# Altium integrated library ON Semi Signal Management CMOS Image Sensors.IntLib: 21 symbols (part 3 of 3)
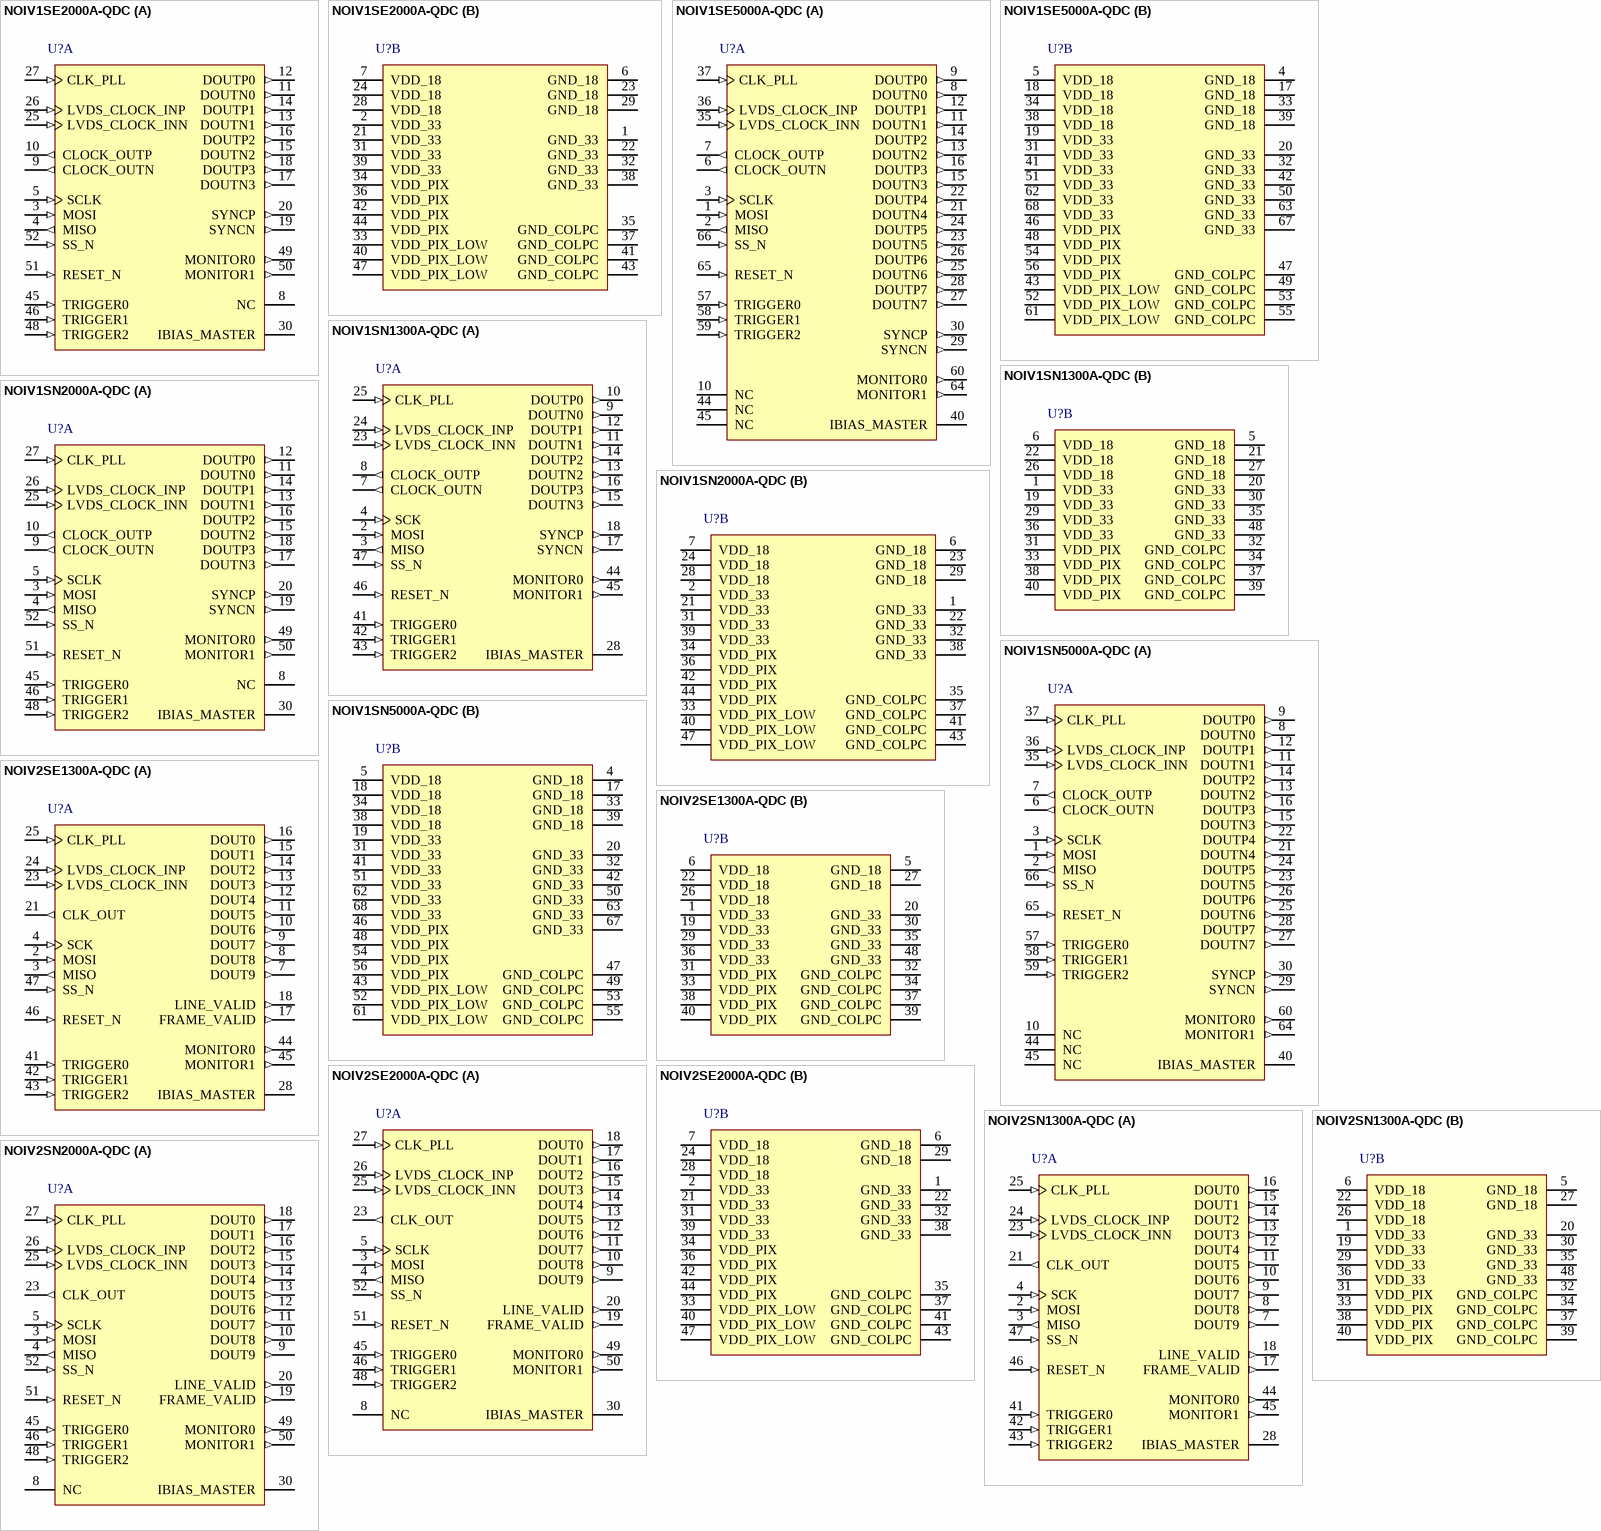
[diagram p5: symbols NOIV1SE2000A-QDC to NOIV2SN2000A-QDC]

## NOIV1SN2000A-QDC
designator U?
2.3 Megapixel 92 FPS Global Shutter CMOS Image Sensor, 0 to 70 degC, 52-Pin LCC, Pb-Free, Tray; Manufacturer: On Semiconductor; PartNumber: NOIV1SN2000A-QDC; Frame Rate (fps): 92; Megapixels: 2; Optical Format: 2/3 inch; Shutter Type: Pipelined and Triggered Global Shutter, Rolling Shutter; DatasheetVersion: Rev. 5; PackageVersion: Rev. O, 06/2011; PackageReference: LCC-52-115AP-01; PackageDescription: 52-Pin Leadless Chip Carrier, Body 19.115 x 19.115 mm, Pitch 1.27 mm; Supplier 1: Digi-Key; Supplier Part Number 1: NOIV1SN2000A-QDC-ND; Supplier 2: Newark; Supplier Part Number 2: 65T1494; Supplier 3: Mouser; Supplier Part Number 3: 863-NOIV1SN2000A-QDC; Packing: Tray; RoHS: TRUE; Mounting Technology: Surface Mount; ComponentLink1Description: Manufacturer URL; ComponentLink1URL: http://www.onsemi.com/; ComponentLink2Description: Datasheet; ComponentLink2URL: http://www.onsemi.com/pub_link/Collateral/NOIV1SN2000A-D.PDF; ComponentLink3Description: Package Specification; ComponentLink3URL: http://www.onsemi.com/pub_link/Collateral/115AP.PDF
footprint ONSC-LCC-52-115AP-01_V (LCC, 52-Leads, Body 19.115x19.115mm, Pitch 1.27mm)
part A pins: 3 MOSI (in) "SPI master out - slave in", 4 MISO (out) "SPI master in - slave out", 5 SCLK (in) "SPI clock", 8 NC "Not connected", 9 CLOCK_OUTN (out) "LVDS clock output (Negative)", 10 CLOCK_OUTP (out) "LVDS clock output (Positive)", 11 DOUTN0 (out) "LVDS data output channel #0 (Negative)", 12 DOUTP0 (out) "LVDS data output channel #0(Positive)", 13 DOUTN1 (out) "LVDS data output channel #1 (Negative)", 14 DOUTP1 (out) "LVDS data output channel #1(Positive)", 15 DOUTN2 (out) "LVDS data output channel #2 (Negative)", 16 DOUTP2 (out) "LVDS data output channel #2 (Positive)", 17 DOUTN3 (out) "LVDS data output channel #3 (Negative)", 18 DOUTP3 (out) "LVDS data output channel #3 (Positive)", 19 SYNCN (out) "LVDS sync channel output (Negative)", 20 SYNCP (out) "LVDS sync channel output (Positive)", 25 LVDS_CLOCK_INN (in) "LVDS clock input (Negative)", 26 LVDS_CLOCK_INP (in) "LVDS clock input (Positive)", 27 CLK_PLL (in) "Reference clock input for PLL", 30 IBIAS_MASTER "Master bias reference. Connect 47 k to gnd_33", 45 TRIGGER0 (in) "Trigger input #0", 46 TRIGGER1 (in) "Trigger input #1", 48 TRIGGER2 (in) "Trigger input #2", 49 MONITOR0 (out) "Monitor output #0", 50 MONITOR1 (out) "Monitor output #1", 51 RESET_N (in) "Sensor reset (active low)", 52 SS_N (in) "SPI slave select (active low)"
part B pins: 1 GND_33 (power) "3.3 V ground", 2 VDD_33 (power) "3.3 V Supply", 6 GND_18 (power) "1.8 V ground", 7 VDD_18 (power) "1.8 V supply", 21 VDD_33 (power) "3.3 V supply", 22 GND_33 (power) "3.3 V ground", 23 GND_18 (power) "1.8 V ground", 24 VDD_18 (power) "1.8 V supply", 28 VDD_18 (power) "1.8 V supply", 29 GND_18 (power) "1.8 V ground", 31 VDD_33 (power) "3.3 V supply", 32 GND_33 (power) "3.3 V ground", 33 VDD_PIX_LOW (power) "1.8 V supply", 34 VDD_PIX (power) "Pixel array supply (3.3 V)", 35 GND_COLPC (power) "Pixel array ground (0 V)", 36 VDD_PIX (power) "Pixel array supply (3.3 V)", 37 GND_COLPC (power) "Pixel array ground (0 V)", 38 GND_33 (power) "3.3 V ground", 39 VDD_33 (power) "3.3 V supply", 40 VDD_PIX_LOW (power) "1.8 V supply", 41 GND_COLPC (power) "Pixel array ground (0 V)", 42 VDD_PIX (power) "Pixel array supply (3.3 V)", 43 GND_COLPC (power) "Pixel array ground (0 V)", 44 VDD_PIX (power) "Pixel array supply (3.3 V)", 47 VDD_PIX_LOW (power) "1.8 V supply"

## NOIV1SN5000A-QDC
designator U?
5.3 Megapixel 75 FPS Global Shutter CMOS Image Sensor, 0 to 70 degC, 68-Pin LCC, Pb-Free, Tray; Manufacturer: On Semiconductor; PartNumber: NOIV1SN5000A-QDC; Frame Rate (fps): 75; Megapixels: 5; Optical Format: 1 inch; Shutter Type: Pipelined and Triggered Global Shutter, Rolling Shutter; DatasheetVersion: Rev. 6; PackageVersion: Rev. O, 06/2011; PackageReference: LCC-68-115AR-01; PackageDescription: 68-Pin Leadless Chip Carrier, Body 24.195 x 24.195 mm, Pitch 1.27 mm; Supplier 1: Digi-Key; Supplier Part Number 1: NOIV1SN5000A-QDC-ND; Supplier 2: Newark; Supplier Part Number 2: 65T1495; Supplier 3: Mouser; Supplier Part Number 3: 863-NOIV1SN5000A-QDC; Packing: Tray; RoHS: TRUE; Mounting Technology: Surface Mount; ComponentLink1Description: Manufacturer URL; ComponentLink1URL: http://www.onsemi.com/; ComponentLink2Description: Datasheet; ComponentLink2URL: http://www.onsemi.com/pub_link/Collateral/NOIV1SN5000A-D.PDF; ComponentLink3Description: Package Specification; ComponentLink3URL: http://www.onsemi.com/pub_link/Collateral/115AR.PDF
footprint ONSC-LCC-68-115AR-01_V (LCC, 68-Leads, Body 24.2x24.2mm, Pitch 1.27mm)
part A pins: 1 MOSI (in) "SPI Master Out Slave In", 2 MISO (out) "SPI Master In Slave Out", 3 SCLK (in) "SPI Input Clock", 6 CLOCK_OUTN (out) "LVDS Clock Output (Negative)", 7 CLOCK_OUTP (out) "LVDS Clock Output (Positive)", 8 DOUTN0 (out) "LVDS Data Output Channel #0 (Negative)", 9 DOUTP0 (out) "LVDS Data Output Channel #1 (Positive)", 10 NC "Not Connected", 11 DOUTN1 (out) "LVDS Data Output Channel #1 (Negative)", 12 DOUTP1 (out) "LVDS Data Output Channel #1 (Positive)", 13 DOUTN2 (out) "LVDS Data Output Channel #2 (Negative)", 14 DOUTP2 (out) "LVDS Data Output Channel #2 (Positive)", 15 DOUTN3 (out) "LVDS Data Output Channel #3 (Negative)", 16 DOUTP3 (out) "LVDS Data Output Channel #3 (Positive)", 21 DOUTN4 (out) "LVDS Data Output Channel #4 (Negative)", 22 DOUTP4 (out) "LVDS Data Output Channel #4 (Positive)", 23 DOUTN5 (out) "LVDS Data Output Channel #5 (Negative)", 24 DOUTP5 (out) "LVDS Data Output Channel #5 (Positive)", 25 DOUTN6 (out) "LVDS Data Output Channel #6 (Negative)", 26 DOUTP6 (out) "LVDS Data Output Channel #6 (Positive)", 27 DOUTN7 (out) "LVDS Data Output Channel #7 (Negative)", 28 DOUTP7 (out) "LVDS Data Output Channel #7 (Positive)", 29 SYNCN (out) "LVDS Sync Channel Output (Negative)", 30 SYNCP (out) "LVDS Sync Channel Output (Positive)", 35 LVDS_CLOCK_INN (in) "LVDS Clock Input (Positive)", 36 LVDS_CLOCK_INP (in) "LVDS Clock Input (Positive)", 37 CLK_PLL (in) "Reference Clock Input for PLL", 40 IBIAS_MASTER "Master Bias Reference", 44 NC "Not Connected", 45 NC "Not Connected", 57 TRIGGER0 (in) "Trigger Input #0", 58 TRIGGER1 (in) "Trigger Input #1", 59 TRIGGER2 (in) "Trigger Input #0", 60 MONITOR0 (out) "Monitor Output #0", 64 MONITOR1 (out) "Monitor Output #1", 65 RESET_N (in) "Sensor Reset (Active Low)", 66 SS_N (in) "SPI Slave Select."
part B pins: 4 GND_18 (power) "1.8 V Ground", 5 VDD_18 (power) "1.8 V Supply", 17 GND_18 (power) "1.8 V Ground", 18 VDD_18 (power) "1.8 V Supply", 19 VDD_33 (power) "3.3 V Supply", 20 GND_33 (power) "3.3 V Ground", 31 VDD_33 (power) "3.3 V Supply", 32 GND_33 (power) "3.3 V Ground", 33 GND_18 (power) "1.8 V Ground", 34 VDD_18 (power) "1.8 V Supply", 38 VDD_18 (power) "1.8 V Supply", 39 GND_18 (power) "1.8 V Ground", 41 VDD_33 (power) "3.3 V Supply", 42 GND_33 (power) "3.3 V Ground", 43 VDD_PIX_LOW (power) "Additional optional supply. If not used, tie this node to vdd_pix or ground.", 46 VDD_PIX (power) "Pixel Array Supply (3.3 V)", 47 GND_COLPC (power) "Pixel Array Ground (0 V)", 48 VDD_PIX (power) "Pixel Array Supply (3.3 V)", 49 GND_COLPC (power) "Pixel Array Ground (0 V)", 50 GND_33 (power) "3.3 V Ground", 51 VDD_33 (power) "3.3 V Supply", 52 VDD_PIX_LOW (power) "Additional optional supply. If not used, tie this node to vdd_pix or ground.", 53 GND_COLPC (power) "Pixel Array Ground (0 V)", 54 VDD_PIX (power) "Pixel Array Supply (3.3 V)", 55 GND_COLPC (power) "Pixel Array Ground (0 V)", 56 VDD_PIX (power) "Pixel Array Supply (3.3 V)", 61 VDD_PIX_LOW (power) "Additional optional supply. If not used, tie this node to vdd_pix or ground.", 62 VDD_33 (power) "3.3 V supply", 63 GND_33 (power) "3.3 V Ground", 67 GND_33 (power) "3.3 V Ground", 68 VDD_33 (power) "3.3 V supply"

## NOIV2SE1300A-QDC
designator U?
1.3 Megapixel 150 FPS Global Shutter CMOS Image Sensor, -40 to 85 degC, 48-Pin LCC, Pb-Free, Tray; Manufacturer: On Semiconductor; PartNumber: NOIV2SE1300A-QDC; Frame Rate (fps): 37; Megapixels: 1.3; Optical Format: 1/2 inch; Shutter Type: Pipelined and Triggered Global Shutter, Rolling Shutter; DatasheetVersion: Rev. 9; PackageReference: LCC-48-NOI; PackageDescription: 48-Pin Leadless Chip Carrier, Body 14.305 x 14.305 mm, Pitch 1.016 mm; Supplier 1: Digi-Key; Supplier Part Number 1: NOIV2SE1300A-QDC-ND; Supplier 2: Newark; Supplier Part Number 2: 65T1496; Supplier 3: Mouser; Supplier Part Number 3: 863-NOIV2SE1300A-QDC; Packing: Tray; RoHS: TRUE; Mounting Technology: Surface Mount; ComponentLink1Description: Manufacturer URL; ComponentLink1URL: http://www.onsemi.com/; ComponentLink2Description: Datasheet; ComponentLink2URL: http://www.onsemi.com/pub_link/Collateral/NOIV1SN1300A-D.PDF; ComponentLink3Description: Package Specification; ComponentLink3URL: http://www.onsemi.com/pub_link/Collateral/NOIV1SN1300A-D.PDF
footprint ONSC-LCC-48-NOI_N (LCC, 48-Leads, Body 14.31x14.31mm, Pitch 1.016mm, IPC Medium Density)
footprint ONSC-LCC-48-NOI_L (LCC, 48-Leads, Body 14.31x14.31mm, Pitch 1.016mm, IPC High Density)
footprint ONSC-LCC-48-NOI_M (LCC, 48-Leads, Body 14.31x14.31mm, Pitch 1.016mm, IPC Low Density)
part A pins: 2 MOSI (in) "SPI Master Out - Slave In", 3 MISO (out) "SPI Master In - Slave Out", 4 SCK (in) "SPI Clock", 7 DOUT9 (out) "Data Output Bit #9", 8 DOUT8 (out) "Data Output Bit #8", 9 DOUT7 (out) "Data Output Bit #7", 10 DOUT6 (out) "Data Output Bit #6", 11 DOUT5 (out) "Data Output Bit #5", 12 DOUT4 (out) "Data Output Bit #4", 13 DOUT3 (out) "Data Output Bit #3", 14 DOUT2 (out) "Data Output Bit #2", 15 DOUT1 (out) "Data Output Bit #1", 16 DOUT0 (out) "Data Output Bit #0", 17 FRAME_VALID (out) "Frame Valid Output", 18 LINE_VALID (out) "Line Valid Output", 21 CLK_OUT (out) "Clock output", 23 LVDS_CLOCK_INN (in) "LVDS Clock Input (Negative)", 24 LVDS_CLOCK_INP (in) "LVDS Clock Input (Positive)", 25 CLK_PLL (in) "CMOS Clock Input", 28 IBIAS_MASTER "Master Bias Reference. Connect with 47k to gnd_33.", 41 TRIGGER0 (in) "Trigger Input #0", 42 TRIGGER1 (in) "Trigger Input #1", 43 TRIGGER2 (in) "Trigger Input #2", 44 MONITOR0 (out) "Monitor Output #0", 45 MONITOR1 (out) "Monitor Output #1", 46 RESET_N (in) "Sensor Reset (Active Low)", 47 SS_N (in) "SPI Slave Select (Active Low)"
part B pins: 1 VDD_33 (power) "3.3 V Supply", 5 GND_18 (power) "1.8 V Ground", 6 VDD_18 (power) "1.8 V Supply", 19 VDD_33 (power) "3.3 V Supply", 20 GND_33 (power) "3.3 V Ground", 22 VDD_18 (power) "1.8 V Supply", 26 VDD_18 (power) "1.8 V Supply", 27 GND_18 (power) "1.8 V Ground", 29 VDD_33 (power) "3.3 V Supply", 30 GND_33 (power) "3.3 V Ground", 31 VDD_PIX (power) "Pixel Array Supply", 32 GND_COLPC (power) "Pixel Array Ground", 33 VDD_PIX (power) "Pixel Array Supply", 34 GND_COLPC (power) "Pixel Array Ground", 35 GND_33 (power) "3.3 V Ground", 36 VDD_33 (power) "3.3 V Supply", 37 GND_COLPC (power) "Pixel Array Ground", 38 VDD_PIX (power) "Pixel Array Supply", 39 GND_COLPC (power) "Pixel Array Ground", 40 VDD_PIX (power) "Pixel Array Supply", 48 GND_33 (power) "3.3 V Ground"

## NOIV2SE2000A-QDC
designator U?
2.3 Megapixel 92 FPS Global Shutter CMOS Image Sensor, 0 to 70 degC, 52-Pin LCC, Pb-Free, Tray; Manufacturer: On Semiconductor; PartNumber: NOIV2SE2000A-QDC; Frame Rate (fps): 23; Megapixels: 2; Optical Format: 2/3 inch; Shutter Type: Pipelined and Triggered Global Shutter, Rolling Shutter; DatasheetVersion: Rev. 5; PackageVersion: Rev. O, 06/2011; PackageReference: LCC-52-115AP-01; PackageDescription: 52-Pin Leadless Chip Carrier, Body 19.115 x 19.115 mm, Pitch 1.27 mm; Supplier 1: Digi-Key; Supplier Part Number 1: NOIV2SE2000A-QDC-ND; Supplier 2: Newark; Supplier Part Number 2: 65T1497; Supplier 3: Mouser; Supplier Part Number 3: 863-NOIV2SE2000A-QDC; Packing: Tray; RoHS: TRUE; Mounting Technology: Surface Mount; ComponentLink1Description: Manufacturer URL; ComponentLink1URL: http://www.onsemi.com/; ComponentLink2Description: Datasheet; ComponentLink2URL: http://www.onsemi.com/pub_link/Collateral/NOIV1SN2000A-D.PDF; ComponentLink3Description: Package Specification; ComponentLink3URL: http://www.onsemi.com/pub_link/Collateral/115AP.PDF
footprint ONSC-LCC-52-115AP-01_V (LCC, 52-Leads, Body 19.115x19.115mm, Pitch 1.27mm)
part A pins: 3 MOSI (in) "SPI master out - slave in", 4 MISO (out) "SPI master in - slave out", 5 SCLK (in) "SPI clock", 8 NC "Not connected", 9 DOUT9 (out) "Data output bit #9", 10 DOUT8 (out) "Data output bit #8", 11 DOUT7 (out) "Data output bit #7", 12 DOUT6 (out) "Data output bit #6", 13 DOUT5 (out) "Data output bit #5", 14 DOUT4 (out) "Data output bit #4", 15 DOUT3 (out) "Data output bit #3", 16 DOUT2 (out) "Data output bit #2", 17 DOUT1 (out) "Data output bit #1", 18 DOUT0 (out) "Data output bit #0", 19 FRAME_VALID (out) "Frame valid output", 20 LINE_VALID (out) "Line valid output", 23 CLK_OUT (out) "clock output", 25 LVDS_CLOCK_INN (in) "LVDS clock input (Negative)", 26 LVDS_CLOCK_INP (in) "LVDS clock input (Positive)", 27 CLK_PLL (in) "Reference clock input for PLL", 30 IBIAS_MASTER "Master bias reference. Connect 47 k to gnd_33", 45 TRIGGER0 (in) "Trigger input #0", 46 TRIGGER1 (in) "Trigger input #1", 48 TRIGGER2 (in) "Trigger input #2", 49 MONITOR0 (out) "Monitor output #0", 50 MONITOR1 (out) "Monitor output #1", 51 RESET_N (in) "Sensor reset (active low)", 52 SS_N (in) "SPI slave select (active low)"
part B pins: 1 GND_33 (power) "3.3 V ground", 2 VDD_33 (power) "3.3 V supply", 6 GND_18 (power) "1.8 V ground", 7 VDD_18 (power) "1.8 V supply", 21 VDD_33 (power) "3.3 V supply", 22 GND_33 (power) "3.3 V ground", 24 VDD_18 (power) "1.8 V supply", 28 VDD_18 (power) "1.8 V supply", 29 GND_18 (power) "1.8 V ground", 31 VDD_33 (power) "3.3 V supply", 32 GND_33 (power) "3.3 V ground", 33 VDD_PIX_LOW (power) "1.8 V supply", 34 VDD_PIX (power) "Pixel array supply (3.3 V)", 35 GND_COLPC (power) "Pixel array ground (0 V)", 36 VDD_PIX (power) "Pixel array supply (3.3 V)", 37 GND_COLPC (power) "Pixel array ground (0 V)", 38 GND_33 (power) "3.3 V ground", 39 VDD_33 (power) "3.3 V supply", 40 VDD_PIX_LOW (power) "1.8 V supply", 41 GND_COLPC (power) "Pixel array ground (0 V)", 42 VDD_PIX (power) "Pixel array supply (3.3 V)", 43 GND_COLPC (power) "Pixel array ground (0 V)", 44 VDD_PIX (power) "Pixel array supply (3.3 V)", 47 VDD_PIX_LOW (power) "1.8 V supply"

## NOIV2SN1300A-QDC
designator U?
1.3 Megapixel 150 FPS Global Shutter CMOS Image Sensor, -40 to 85 degC, 48-Pin LCC, Pb-Free, Tray; Manufacturer: On Semiconductor; PartNumber: NOIV2SN1300A-QDC; Frame Rate (fps): 37; Megapixels: 1.3; Optical Format: 1/2 inch; Shutter Type: Pipelined and Triggered Global Shutter, Rolling Shutter; DatasheetVersion: Rev. 9; PackageReference: LCC-48-NOI; PackageDescription: 48-Pin Leadless Chip Carrier, Body 14.305 x 14.305 mm, Pitch 1.016 mm; Supplier 1: Digi-Key; Supplier Part Number 1: NOIV2SN1300A-QDC-ND; Supplier 2: Newark; Supplier Part Number 2: 65T1498; Supplier 3: Mouser; Supplier Part Number 3: 863-NOIV2SN1300A-QDC; Packing: Tray; RoHS: TRUE; Mounting Technology: Surface Mount; ComponentLink1Description: Manufacturer URL; ComponentLink1URL: http://www.onsemi.com/; ComponentLink2Description: Datasheet; ComponentLink2URL: http://www.onsemi.com/pub_link/Collateral/NOIV1SN1300A-D.PDF; ComponentLink3Description: Package Specification; ComponentLink3URL: http://www.onsemi.com/pub_link/Collateral/NOIV1SN1300A-D.PDF
footprint ONSC-LCC-48-NOI_N (LCC, 48-Leads, Body 14.31x14.31mm, Pitch 1.016mm, IPC Medium Density)
footprint ONSC-LCC-48-NOI_L (LCC, 48-Leads, Body 14.31x14.31mm, Pitch 1.016mm, IPC High Density)
footprint ONSC-LCC-48-NOI_M (LCC, 48-Leads, Body 14.31x14.31mm, Pitch 1.016mm, IPC Low Density)
part A pins: 2 MOSI (in) "SPI Master Out - Slave In", 3 MISO (out) "SPI Master In - Slave Out", 4 SCK (in) "SPI Clock", 7 DOUT9 (out) "Data Output Bit #9", 8 DOUT8 (out) "Data Output Bit #8", 9 DOUT7 (out) "Data Output Bit #7", 10 DOUT6 (out) "Data Output Bit #6", 11 DOUT5 (out) "Data Output Bit #5", 12 DOUT4 (out) "Data Output Bit #4", 13 DOUT3 (out) "Data Output Bit #3", 14 DOUT2 (out) "Data Output Bit #2", 15 DOUT1 (out) "Data Output Bit #1", 16 DOUT0 (out) "Data Output Bit #0", 17 FRAME_VALID (out) "Frame Valid Output", 18 LINE_VALID (out) "Line Valid Output", 21 CLK_OUT (out) "Clock output", 23 LVDS_CLOCK_INN (in) "LVDS Clock Input (Negative)", 24 LVDS_CLOCK_INP (in) "LVDS Clock Input (Positive)", 25 CLK_PLL (in) "CMOS Clock Input", 28 IBIAS_MASTER "Master Bias Reference. Connect with 47k to gnd_33.", 41 TRIGGER0 (in) "Trigger Input #0", 42 TRIGGER1 (in) "Trigger Input #1", 43 TRIGGER2 (in) "Trigger Input #2", 44 MONITOR0 (out) "Monitor Output #0", 45 MONITOR1 (out) "Monitor Output #1", 46 RESET_N (in) "Sensor Reset (Active Low)", 47 SS_N (in) "SPI Slave Select (Active Low)"
part B pins: 1 VDD_33 (power) "3.3 V Supply", 5 GND_18 (power) "1.8 V Ground", 6 VDD_18 (power) "1.8 V Supply", 19 VDD_33 (power) "3.3 V Supply", 20 GND_33 (power) "3.3 V Ground", 22 VDD_18 (power) "1.8 V Supply", 26 VDD_18 (power) "1.8 V Supply", 27 GND_18 (power) "1.8 V Ground", 29 VDD_33 (power) "3.3 V Supply", 30 GND_33 (power) "3.3 V Ground", 31 VDD_PIX (power) "Pixel Array Supply", 32 GND_COLPC (power) "Pixel Array Ground", 33 VDD_PIX (power) "Pixel Array Supply", 34 GND_COLPC (power) "Pixel Array Ground", 35 GND_33 (power) "3.3 V Ground", 36 VDD_33 (power) "3.3 V Supply", 37 GND_COLPC (power) "Pixel Array Ground", 38 VDD_PIX (power) "Pixel Array Supply", 39 GND_COLPC (power) "Pixel Array Ground", 40 VDD_PIX (power) "Pixel Array Supply", 48 GND_33 (power) "3.3 V Ground"

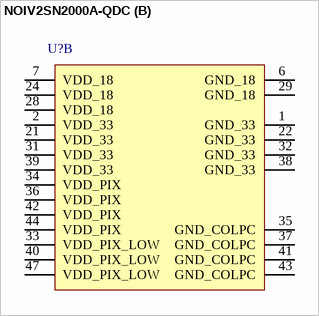
[diagram p3: symbol NOIV2SN2000A-QDC]

## NOIV2SN2000A-QDC
designator U?
2.3 Megapixel 92 FPS Global Shutter CMOS Image Sensor, 0 to 70 degC, 52-Pin LCC, Pb-Free, Tray; Manufacturer: On Semiconductor; PartNumber: NOIV2SN2000A-QDC; Frame Rate (fps): 23; Megapixels: 2; Optical Format: 2/3 inch; Shutter Type: Pipelined and Triggered Global Shutter, Rolling Shutter; DatasheetVersion: Rev. 5; PackageVersion: Rev. O, 06/2011; PackageReference: LCC-52-115AP-01; PackageDescription: 52-Pin Leadless Chip Carrier, Body 19.115 x 19.115 mm, Pitch 1.27 mm; Supplier 1: Digi-Key; Supplier Part Number 1: NOIV2SN2000A-QDC-ND; Supplier 2: Mouser; Supplier Part Number 2: 863-NOIV2SN2000A-QDC; Packing: Tray; RoHS: TRUE; Mounting Technology: Surface Mount; ComponentLink1Description: Manufacturer URL; ComponentLink1URL: http://www.onsemi.com/; ComponentLink2Description: Datasheet; ComponentLink2URL: http://www.onsemi.com/pub_link/Collateral/NOIV1SN2000A-D.PDF; ComponentLink3Description: Package Specification; ComponentLink3URL: http://www.onsemi.com/pub_link/Collateral/115AP.PDF
footprint ONSC-LCC-52-115AP-01_V (LCC, 52-Leads, Body 19.115x19.115mm, Pitch 1.27mm)
part A pins: 3 MOSI (in) "SPI master out - slave in", 4 MISO (out) "SPI master in - slave out", 5 SCLK (in) "SPI clock", 8 NC "Not connected", 9 DOUT9 (out) "Data output bit #9", 10 DOUT8 (out) "Data output bit #8", 11 DOUT7 (out) "Data output bit #7", 12 DOUT6 (out) "Data output bit #6", 13 DOUT5 (out) "Data output bit #5", 14 DOUT4 (out) "Data output bit #4", 15 DOUT3 (out) "Data output bit #3", 16 DOUT2 (out) "Data output bit #2", 17 DOUT1 (out) "Data output bit #1", 18 DOUT0 (out) "Data output bit #0", 19 FRAME_VALID (out) "Frame valid output", 20 LINE_VALID (out) "Line valid output", 23 CLK_OUT (out) "clock output", 25 LVDS_CLOCK_INN (in) "LVDS clock input (Negative)", 26 LVDS_CLOCK_INP (in) "LVDS clock input (Positive)", 27 CLK_PLL (in) "Reference clock input for PLL", 30 IBIAS_MASTER "Master bias reference. Connect 47 k to gnd_33", 45 TRIGGER0 (in) "Trigger input #0", 46 TRIGGER1 (in) "Trigger input #1", 48 TRIGGER2 (in) "Trigger input #2", 49 MONITOR0 (out) "Monitor output #0", 50 MONITOR1 (out) "Monitor output #1", 51 RESET_N (in) "Sensor reset (active low)", 52 SS_N (in) "SPI slave select (active low)"
part B pins: 1 GND_33 (power) "3.3 V ground", 2 VDD_33 (power) "3.3 V supply", 6 GND_18 (power) "1.8 V ground", 7 VDD_18 (power) "1.8 V supply", 21 VDD_33 (power) "3.3 V supply", 22 GND_33 (power) "3.3 V ground", 24 VDD_18 (power) "1.8 V supply", 28 VDD_18 (power) "1.8 V supply", 29 GND_18 (power) "1.8 V ground", 31 VDD_33 (power) "3.3 V supply", 32 GND_33 (power) "3.3 V ground", 33 VDD_PIX_LOW (power) "1.8 V supply", 34 VDD_PIX (power) "Pixel array supply (3.3 V)", 35 GND_COLPC (power) "Pixel array ground (0 V)", 36 VDD_PIX (power) "Pixel array supply (3.3 V)", 37 GND_COLPC (power) "Pixel array ground (0 V)", 38 GND_33 (power) "3.3 V ground", 39 VDD_33 (power) "3.3 V supply", 40 VDD_PIX_LOW (power) "1.8 V supply", 41 GND_COLPC (power) "Pixel array ground (0 V)", 42 VDD_PIX (power) "Pixel array supply (3.3 V)", 43 GND_COLPC (power) "Pixel array ground (0 V)", 44 VDD_PIX (power) "Pixel array supply (3.3 V)", 47 VDD_PIX_LOW (power) "1.8 V supply"